# Altium footprint library RESC200X125X60L35N.PcbLib: 1 footprints
Each footprint in its own frame and in the unit in brackets; x right, y up, seen from the top. Pads: shape width x height; smd on the part's side, far side on the other; paste and mask are expansions set on the pad; w line width, h text height; cw(c..) or ccw(c..) is an arc to the next point about the centre after c.
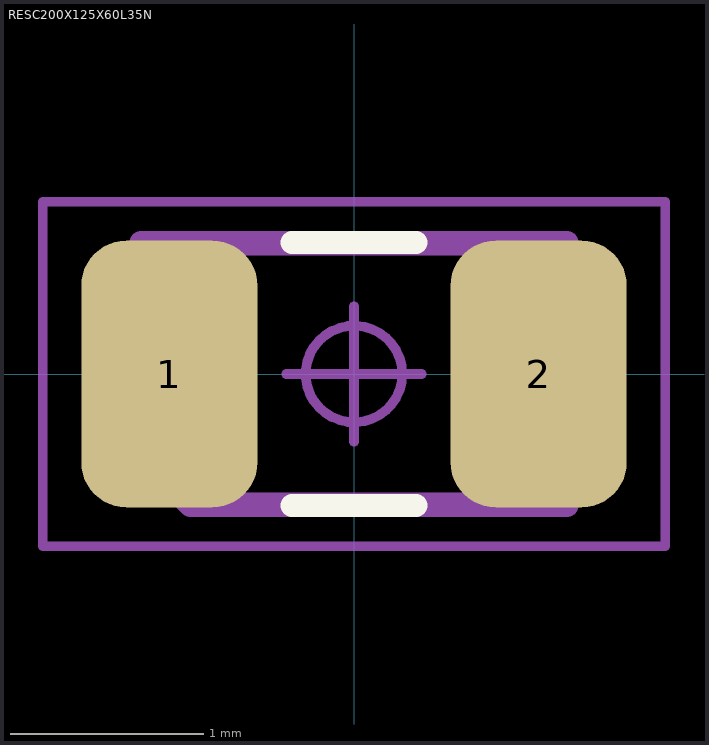
[diagram p0: the footprint, top view; thin cyan lines are the x and y axes]

## RESC200X125X60L35N [mm] "Resistor, Chip; 2.00 mm L X 1.25 mm W X 0.60 mm H body"
height 0.6
pads (2):
  rrect51% 0.91x1.38 smd: 1(-0.955,0) 2(0.955,0)
Top Overlay:
  lines w0.12: -0.32,-0.68 0.32,-0.68 ; -0.32,0.68 0.32,0.68
Mechanical 3:
  lines w0.12: -1.1,-0.424 -1.1,0.68 1.1,0.68 1.1,-0.68 -0.844,-0.68 -1.1,-0.424
Mechanical 5:
  lines w0.025: -1,-0.625 1,-0.625 ; -1,-0.625 -1,0.625 ; -1,-0.625 -1,0.625 ; -1,-0.625 -0.65,-0.625 -0.65,0.625 -1,0.625 ; -1,0.625 1,0.625 ; 1,-0.625 1,0.625 ; 1,-0.625 0.65,-0.625 0.65,0.625 1,0.625 ; 1,-0.625 1,0.625
Mechanical 7:
  circle w0.05: c0,0 r0.25
  lines w0.05: -0.35,0 0.35,0 ; 0,-0.35 0,0.35 ; -1.61,-0.89 1.61,-0.89 1.61,0.89 -1.61,0.89 -1.61,-0.89
Mechanical 9:
  text "'.Designator'" at -5.588,-0.254 h1
3D body "RESC200X125X60L35.STEP": height 0.6, standoff 0, extent -1,-0.625 1,0.625
3D body: height 1, standoff 0, extent -1.61,-0.89 1.61,0.89